# Altium schematic symbol library TPD8E003.SchLib: 2 symbols
Pins are listed as number, name and electrical type; pins without a type are passive.

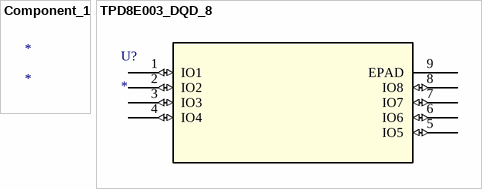
[diagram p0: symbols Component_1 to TPD8E003_DQD_8]

## Component_1
designator *

## TPD8E003_DQD_8
designator U?
Imported; Manufacturer_Part_Number: tpd8e003_dqd_8; GENERIC_PART_NUMBER: TPD8E003; Vendor: Texas Instruments; PACKAGE_DESIGNATOR: DQD; PIN_COUNT: 8; FAMILY_NAME: ESD Solution; INDUSTRY_STD_PKG_TYPE: WSON; Manufacturer: Texas Instruments; Datasheet_URL: http://www.ti.com/lit/gpn/TPD8E003; Value: Value; Type: Type; RefDes: RefDes
footprint DQD8_1P2X0P4
pins: 1 IO1 (io), 2 IO2 (io), 3 IO3 (io), 4 IO4 (io), 5 IO5 (io), 6 IO6 (io), 7 IO7 (io), 8 IO8 (io), 9 EPAD